# EAGLE library part UEI15 (library UEI15)
Isolated Wide Input Range 15-Watt DC/DC Converter
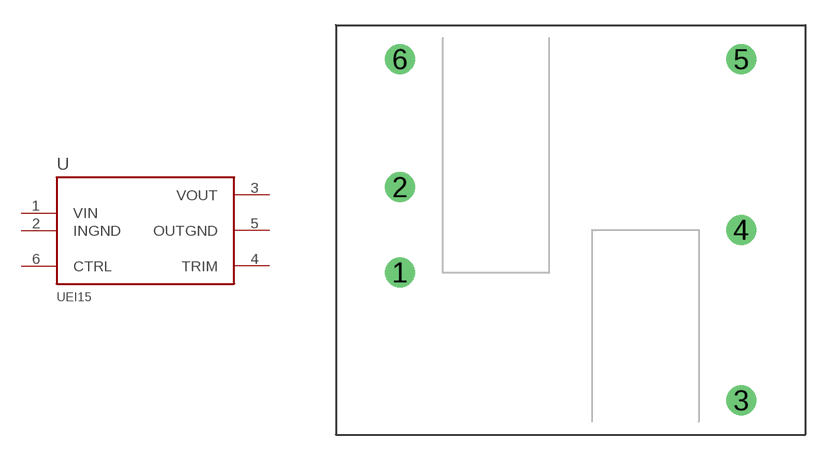
[diagram p0: symbol with the pads of UEI15_PIN; footprint UEI15_PIN]

Designator prefix U

## UEI15  [UEI15_PIN]
1  VIN
2  INGND
3  VOUT
4  TRIM
5  OUTGND
6  CTRL

## Footprint UEI15_PIN (pad centres in mm)
drill 1.194: 1 -10.16,-2.54; 2 -10.16,2.54; 3 10.16,-10.16; 4 10.16,0; 5 10.16,10.16; 6 -10.16,10.16